# Altium footprint library Components - 01.03.25 - 17.19.PcbLib: 1 footprints
Each footprint in its own frame and in the unit in brackets; x right, y up, seen from the top. Pads: shape width x height; smd on the part's side, far side on the other; paste and mask are expansions set on the pad; w line width, h text height; cw(c..) or ccw(c..) is an arc to the next point about the centre after c.
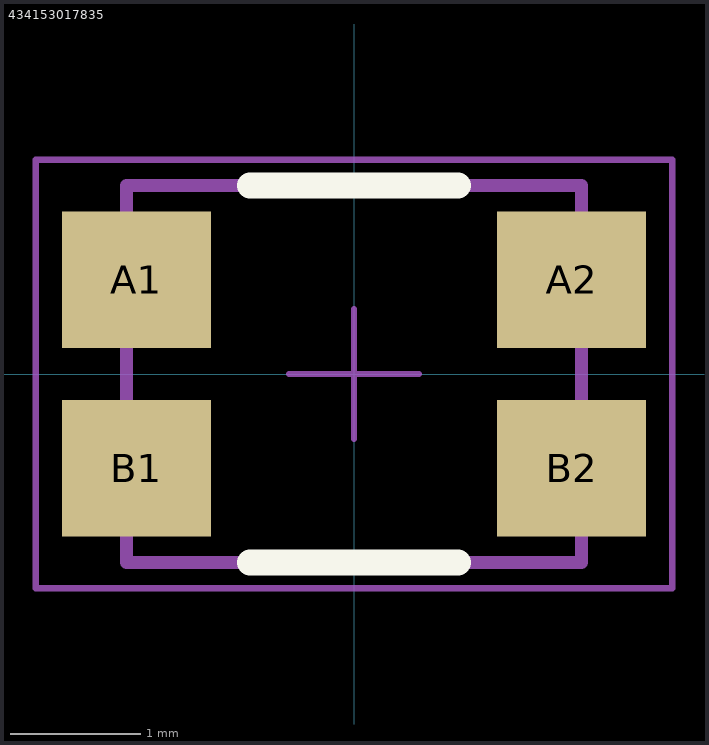
[diagram p0: the footprint, top view; thin cyan lines are the x and y axes]

## 434153017835 [mm] "Tact Switch, SMD, body 3.5x2.9mm"
height 1.7
pads (4):
  rect 1.15x1.05 smd: A1(-1.675,0.725) A2(1.675,0.725) B1(-1.675,-0.725) B2(1.675,-0.725)
Top Overlay:
  lines w0.2: -0.8,-1.45 0.8,-1.45 ; -0.8,1.45 0.8,1.45
Top Component Outline:
  lines w0.1: -1.75,-1.45 1.75,-1.45 1.75,1.45 -1.75,1.45 -1.75,-1.45
Top Courtyard:
  lines w0.05: -2.45,-1.65 2.45,-1.65 2.45,1.65 -2.45,1.65 -2.45,-1.65
Top Component Center:
  lines w0.05: -0.5,0 0.5,0 ; 0,-0.5 0,0.5
Top Designator (Mech19):
  text ".Designator" at -4.998,-0.333 h1
3D body "434153017835.stp": height 1.7, standoff 0, extent -2.147,-1.45 2.147,1.45